# EAGLE library part MBT3904DW1T1G (library hacker-board)
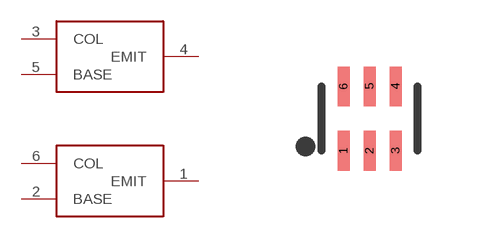
[diagram p2: symbol with the pads of SOT363; footprint SOT363]

Designator prefix -; gates G$1=MBT3904DW1T1G G$2=MBT3904DW1T1G

## MBT3904DW1T1G  [SOT363]
1  G$1:EMIT
2  G$1:BASE
3  G$2:COL
4  G$2:EMIT
5  G$2:BASE
6  G$1:COL

## Footprint SOT363 (pad centres in mm)
smd 0.3 x 0.99: 1 -0.65,-0.8; 2 0,-0.8; 3 0.65,-0.8; 4 0.65,0.81; 5 0,0.81; 6 -0.65,0.81